# Altium schematic symbol library v2.SchLib: 12 symbols
Pins are listed as number, name and electrical type; pins without a type are passive.

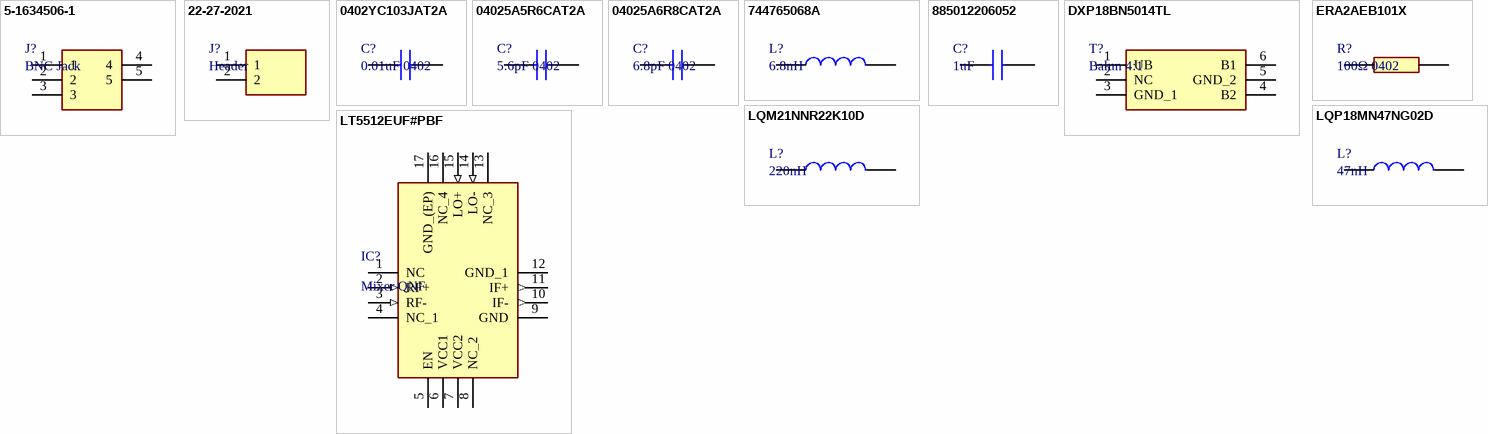
[diagram p0: symbols 5-1634506-1 to LT5512EUF#PBF]

## 5-1634506-1
designator J?, comment BNC Jack
Connector; Manufacturer_Name: TE Connectivity; Manufacturer_Part_Number: 5-1634506-1; Allied_Number: 70084638; Datasheet Link: http://www.te.com/commerce/DocumentDelivery/DDEController?Action=showdoc&DocId=Customer+Drawing%7F1634506%7FC%7Fpdf%7FEnglish%7FENG_CD_1634506_C.pdf%7F5-1634506-1.pdf; Mouser Part Number: 571-5-1634506-1; Mouser Price/Stock: https://www.mouser.com/Search/Refine.aspx?Keyword=571-5-1634506-1; RS Part Number: 1864825; RS Price/Stock: http://uk.rs-online.com/web/p/products/1864825; Allied Price/Stock: http://www.alliedelec.com/te-connectivity-5-1634506-1/70084638/
footprint 5-1634506-1
pins: 1, 2, 3, 4, 5

## 22-27-2021
designator J?, comment Header
Connector; Manufacturer_Name: Molex; Datasheet Link: http://uk.rs-online.com/web/p/pcb-headers/4838461/?source=DS; Height: 11.18mm; Manufacturer_Part_Number: 22-27-2021; Mouser Part Number: 538-22-27-2021; Mouser Price/Stock: https://www.mouser.com/Search/Refine.aspx?Keyword=538-22-27-2021; RS Part Number: 1891397; RS Price/Stock: http://uk.rs-online.com/web/p/products/1891397
footprint HDRV2W64P254_2X1_508X580H1118
pins: 1, 2

## 0402YC103JAT2A
designator C?, comment 0.01uF 0402
Capacitor; Manufacturer_Name: AVX; Manufacturer_Part_Number: 0402YC103JAT2A; Allied_Number: 70002157; Datasheet Link: http://www.mouser.com/catalog/supplier/library/pdf/AVXSurfaceMountCeramic.pdf; Height: 0.56mm; Mouser Part Number: 581-0402YC103J; Mouser Price/Stock: https://www.mouser.com/Search/Refine.aspx?Keyword=581-0402YC103J; RS Part Number: 6983172; RS Price/Stock: https://uk.rs-online.com/web/p/products/6983172; Allied Price/Stock: https://www.alliedelec.com/avx-0402yc103jat2a/70002157/
footprint CAPC1005X56N
pins: 1, 2

## 04025A5R6CAT2A
designator C?, comment 5.6pF 0402
Capacitor; Manufacturer_Name: AVX; Manufacturer_Part_Number: 04025A5R6CAT2A; Allied_Number: 70002037; Datasheet Link: http://www.mouser.com/catalog/supplier/library/pdf/AVXSurfaceMountCeramic.pdf; Height: 0.56mm; Mouser Part Number: 581-04025A5R6C; Mouser Price/Stock: https://www.mouser.com/Search/Refine.aspx?Keyword=581-04025A5R6C; RS Part Number: 6983116; RS Price/Stock: https://uk.rs-online.com/web/p/products/6983116; Allied Price/Stock: https://www.alliedelec.com/avx-04025a5r6cat2a/70002037/
footprint CAPC1005X56N
pins: 1, 2

## 04025A6R8CAT2A
designator C?, comment 6.8pF 0402
Capacitor; Manufacturer_Name: AVX; Manufacturer_Part_Number: 04025A6R8CAT2A; Allied_Number: 70002038; Datasheet Link: http://www.mouser.com/catalog/supplier/library/pdf/AVXSurfaceMountCeramic.pdf; Height: 0.56mm; Mouser Part Number: 581-04025A6R8C; Mouser Price/Stock: https://www.mouser.com/Search/Refine.aspx?Keyword=581-04025A6R8C; RS Part Number: 6983125; RS Price/Stock: https://uk.rs-online.com/web/p/products/6983125; Allied Price/Stock: https://www.alliedelec.com/avx-04025a6r8cat2a/70002038/
footprint CAPC1005X56N
pins: 1, 2

## 744765068A
designator L?, comment 6.8nH
Inductor; Manufacturer_Name: Wurth Elektronik; Manufacturer_Part_Number: 744765068A; Datasheet Link: http://componentsearchengine.com/Datasheets/1/744765068A.pdf; Mouser Part Number: 710-744765068A; Mouser Price/Stock: https://www.mouser.com/Search/Refine.aspx?Keyword=710-744765068A; RS Part Number: 7373513; RS Price/Stock: https://uk.rs-online.com/web/p/products/7373513
footprint WE-KI_0402A30
pins: 1, 2

## 885012206052
designator C?, comment 1uF
Capacitor; Manufacturer_Name: Wurth Elektronik; Manufacturer_Part_Number: 885012206052; Description: Wurth Elektronik 0603 WCAP-CSGP 1uF Ceramic Multilayer Capacitor; Datasheet Link: https://katalog.we-online.com/pbs/datasheet/885012206052.pdf; Height: 0.87mm; Mouser Part Number: 710-885012206052; Mouser Price/Stock: https://www.mouser.com/Search/Refine.aspx?Keyword=710-885012206052; RS Part Number: 8392833P; RS Price/Stock: http://uk.rs-online.com/web/p/products/8392833P
footprint CAPC1608X87N
pins: 1, 2

## DXP18BN5014TL
designator T?, comment Balun 4:1
Transformer; Manufacturer_Name: Murata Electronics; Manufacturer_Part_Number: DXP18BN5014TL; Datasheet Link: https://www.murata.com/en-us/products/productdata/8796776071198/EFKA0002.pdf; Height: 0.55mm; Mouser Part Number: 81-DXP18BN5014TL; Mouser Price/Stock: https://www.mouser.com/Search/Refine.aspx?Keyword=81-DXP18BN5014TL; RS Part Number: 8390904P; RS Price/Stock: http://uk.rs-online.com/web/p/products/8390904P
footprint DXP18BN5014TL
pins: 1 UB, 2 NC, 3 GND_1, 4 B2, 5 GND_2, 6 B1

## ERA2AEB101X
designator R?, comment 100Ω 0402
Resistor; Manufacturer_Name: Panasonic; Manufacturer_Part_Number: ERA2AEB101X; Allied_Number: 70260786; Datasheet Link: https://industrial.panasonic.com/cdbs/www-data/pdf/RDA0000/AOA0000C237.pdf; Height: 0.4mm; RS Part Number: 0566658; RS Price/Stock: http://uk.rs-online.com/web/p/products/0566658; Allied Price/Stock: https://www.alliedelec.com/panasonic-era-2aeb101x/70260786/
footprint RESC1005X40N
pins: 1, 2

## LQM21NNR22K10D
designator L?, comment 220nH
Inductor; Manufacturer_Name: Murata Electronics; Manufacturer_Part_Number: LQM21NNR22K10D; Datasheet Link: https://psearch.en.murata.com/inductor/product/LQM21NNR22K10%23.html; Height: 1.05mm; Mouser Part Number: 81-LQG21NR22K10; Mouser Price/Stock: https://www.mouser.com/Search/Refine.aspx?Keyword=81-LQG21NR22K10; RS Part Number: 7242756; RS Price/Stock: https://uk.rs-online.com/web/p/products/7242756
footprint INDC2012X105N
pins: 1, 2

## LQP18MN47NG02D
designator L?, comment 47nH
Inductor; Manufacturer_Name: Murata Electronics; Manufacturer_Part_Number: LQP18MN47NG02D; Datasheet Link: https://psearch.en.murata.com/inductor/product/LQP18MN47NG02%23.html; Height: 0.6mm; Mouser Part Number: 81-LQP18MN47NG02D; Mouser Price/Stock: https://www.mouser.com/Search/Refine.aspx?Keyword=81-LQP18MN47NG02D; RS Part Number: 7859225P; RS Price/Stock: http://uk.rs-online.com/web/p/products/7859225P
footprint INDC1608X60N
pins: 1, 2

## LT5512EUF#PBF
designator IC?, comment Mixer QNF
Integrated Circuit; Manufacturer_Name: Linear Technology; Manufacturer_Part_Number: LT5512EUF#PBF; Datasheet Link: http://cds.linear.com/docs/en/datasheet/5512fa.pdf; Height: 0.8mm; RS Part Number: 5060861P; RS Price/Stock: http://uk.rs-online.com/web/p/products/5060861P
footprint QFN65P400X400X80-17N-D
pins: 1 NC, 2 RF+ (in), 3 RF- (in), 4 NC_1, 5 EN, 6 VCC1 (power), 7 VCC2 (power), 8 NC_2, 9 GND (power), 10 IF- (out), 11 IF+ (out), 12 GND_1 (power), 13 NC_3, 14 LO- (in), 15 LO+ (in), 16 NC_4, 17 GND_(EP) (power)